# Altium integrated library Cypress Clocks & Buffers Clock Generation.IntLib: 249 symbols (part 7 of 12)
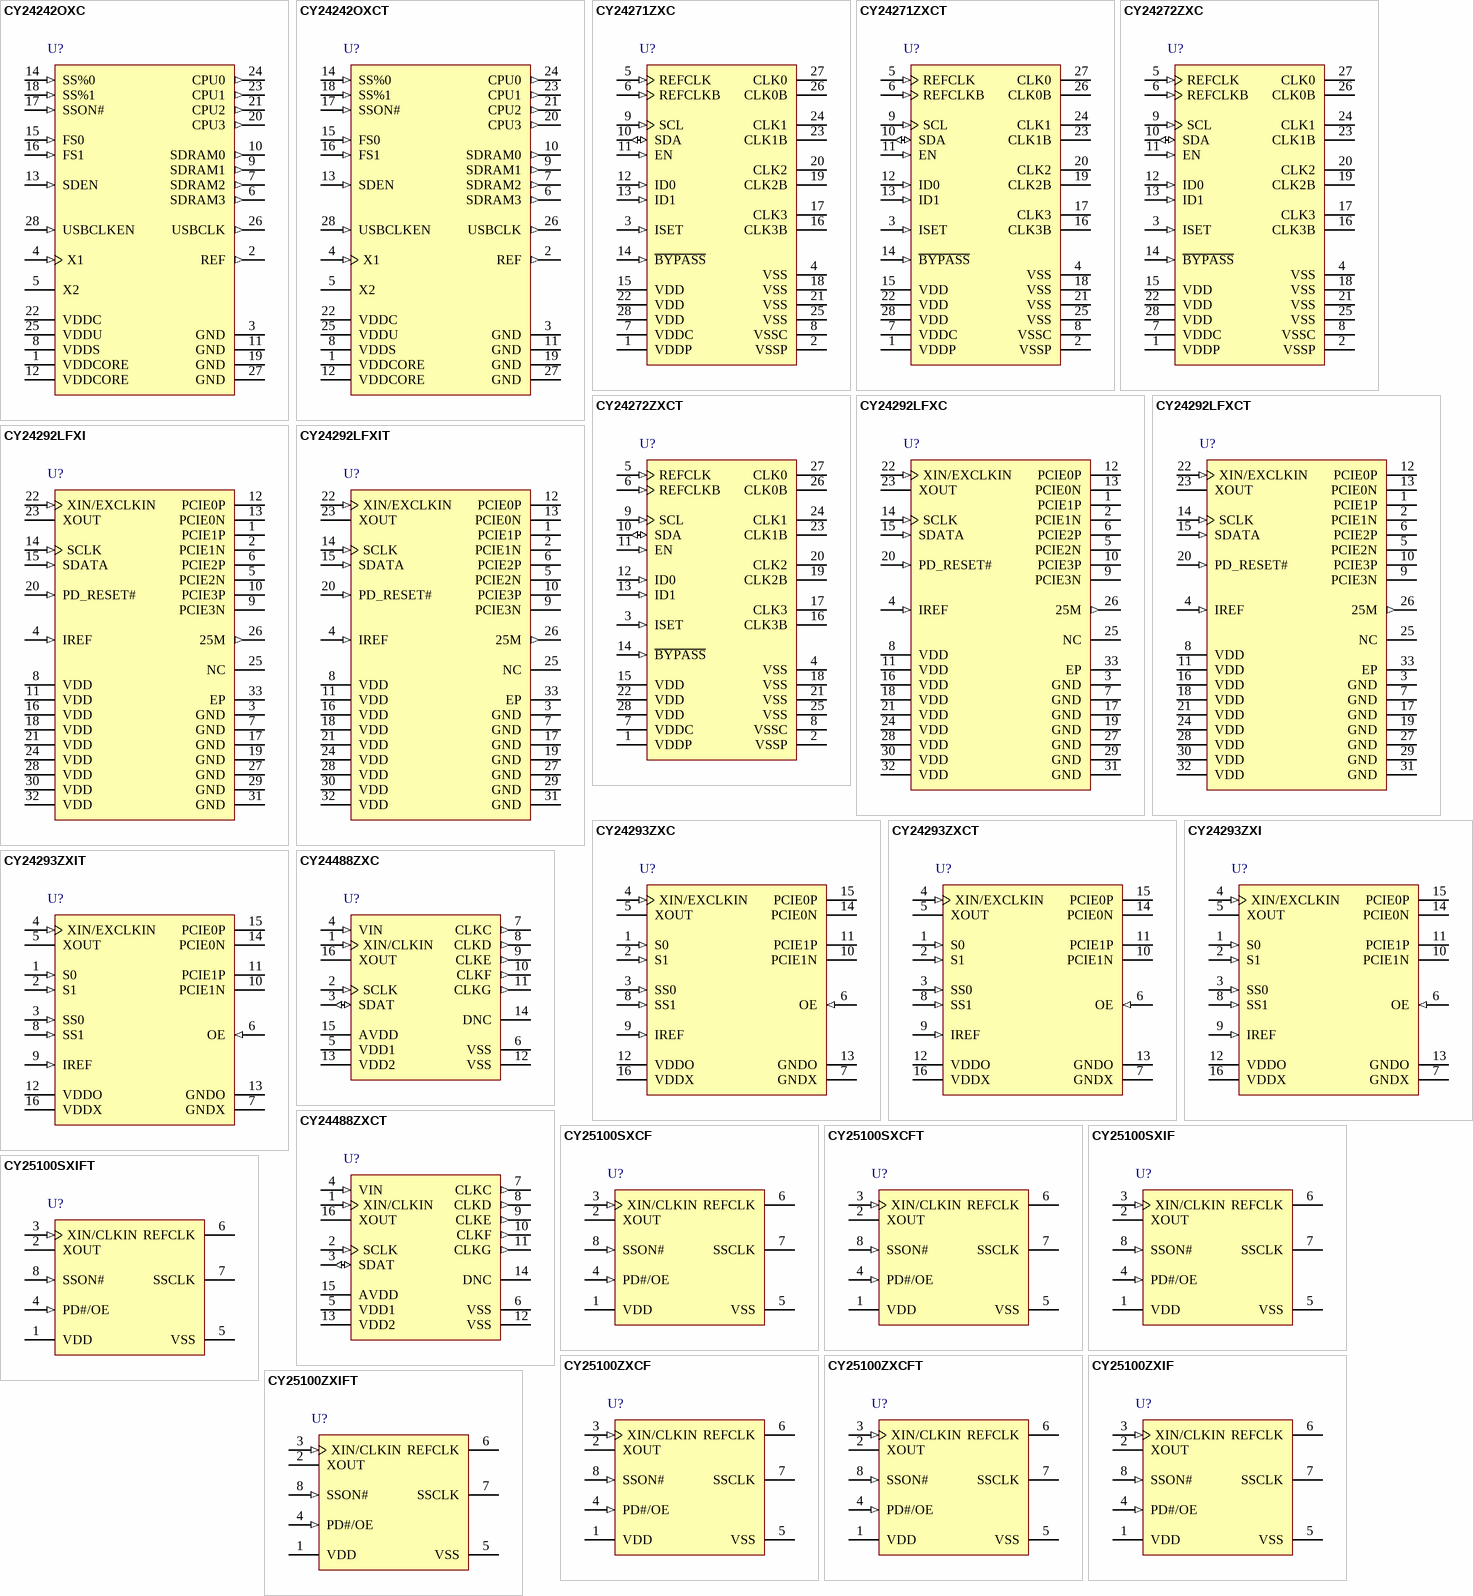
[diagram p14: symbols CY24242OXC to CY25100ZXIFT]

## CY24292LFXIT
designator U?
PCI-Express Clock Generator, 3.3 V, 5 Outputs, 100 MHz Maximum, -40 to 85 degC, 32-Pin QFN (LQX32), Tape and Reel; Manufacturer: Cypress; PartNumber: CY24292LFXIT; Max. Operating Voltage (V): 3.6; Min. Operating Voltage (V): 3; No. of Outputs: 5; Output Frequency Max. (MHz): 100; DatasheetVersion: Rev. *D; PackageVersion: Rev. *E; PackageReference: LQX32; PackageDescription: 32-Pin QFN (5 x 4 x 0.55 mm) LQ32 3.5 x 3.5 E-Pad (Sawn); Supplier 1: Digi-Key; Supplier Part Number 1: CY24292LFXIT-ND; Supplier 2: Mouser; Supplier Part Number 2: 727-CY24292LFXIT; Max. Operating Temp. (degreesC): 85; Min. Operating Temp. (degreesC): -40; Packing: Tape and Reel; RoHS: Pb-Free; Mounting Technology: Surface Mount; Code_JEDEC: MO-248; ComponentLink1Description: Manufacturer URL; ComponentLink1URL: http://www.cypress.com/; ComponentLink2Description: Datasheet; ComponentLink2URL: http://www.cypress.com/?docID=32724; ComponentLink3Description: Package Specification; ComponentLink3URL: http://www.cypress.com/?docID=46968
footprint CYP-LQX32_N (QFN, 32-Leads, Body 5x5mm, Pitch 0.5mm, Thermal Pad 3.5x3.5mm, IPC Medium Density)
footprint CYP-LQX32_L (QFN, 32-Leads, Body 5x5mm, Pitch 0.5mm, Thermal Pad 3.5X3.5mm, IPC High Density)
footprint CYP-LQX32_M (QFN, 32-Leads, Body 5x5mm, Pitch 0.5mm, Thermal Pad 3.5x3.5mm, IPC Low Density)
pins: 1 PCIE1P (hiz) "Differential 100 MHz PCI-Express true clock output. High impedance when disabled.", 2 PCIE1N (hiz) "Differential 100 MHz PCI-Express complementary clock output. High impedance when disabled.", 3 GND (power) "Ground", 4 IREF (in) "Current set for all differential clock drivers. Connect 475 ohm resistor to ground.", 5 PCIE2N (hiz) "Differential 100 MHz PCI-Express complementary clock output. High impedance when disabled.", 6 PCIE2P (hiz) "Differential 100 MHz PCI-Express true clock output. High impedance when disabled.", 7 GND (power) "Ground", 8 VDD (power) "3.3 V Power supply", 9 PCIE3N (hiz) "Differential 100 MHz PCI-Express complementary clock output. High impedance when disabled.", 10 PCIE3P (hiz) "Differential 100 MHz PCI-Express true clock output. High impedance when disabled.", 11 VDD (power) "3.3 V Power supply", 12 PCIE0P (hiz) "Differential 100 MHz PCI-Express true clock output. High impedance when disabled.", 13 PCIE0N (hiz) "Differential 100 MHz PCI-Express complementary clock output. High impedance when disabled.", 14 SCLK (in) "SMBus clock input", 15 SDATA (in) "SMBus data input", 16 VDD (power) "3.3 V Power supply", 17 GND (power) "Ground", 18 VDD (power) "3.3 V Power supply", 19 GND (power) "Ground", 20 PD_RESET# (in) "Global reset pin. Powers down PLLs, disables outputs and sets the SMBus tables to their default state when pulled low. Has internal weak pull up.", 21 VDD (power) "3.3 V Power supply", 22 XIN/EXCLKIN (in) "Crystal or clock input. Connect to 25 MHz fundamental mode crystal or clock.", 23 XOUT "Crystal output. Connect to 25 MHz fundamental mode crystal. Float for clock input.", 24 VDD (power) "3.3 V Power supply", 25 NC "No connect. Pin has no internal connection.", 26 25M (out) "25 MHz Single-ended LVCMOS output. Pull-down when disabled by PD_RESET#. Driven low when individually disabled (via SMBus byte 0, bit 0).", 27 GND (power) "Ground", 28 VDD (power) "3.3 V Power supply", 29 GND (power) "Ground", 30 VDD (power) "3.3 V Power supply", 31 GND (power) "Ground", 32 VDD (power) "3.3 V Power supply", 33 EP

## CY24293ZXC
designator U?
PCI-Express Clock Generator, 3.3 V, 2 Outputs, 200 MHz Maximum, 0 to 70 degC, 16-Pin TSSOP (ZX16), Tube; Manufacturer: Cypress; PartNumber: CY24293ZXC; Max. Operating Voltage (V): 3.6; Min. Operating Voltage (V): 3; No. of Outputs: 2; Output Frequency Max. (MHz): 200; DatasheetVersion: Rev. *E; PackageVersion: Rev. *D, 09/2011; PackageReference: ZX16; PackageDescription: 16-Pin Thin Shrink Small Outline Package, Body 5 x 4.4 mm, Pitch 0.65 mm; Supplier 1: Digi-Key; Supplier Part Number 1: CY24293ZXC-ND; Supplier 2: Mouser; Supplier Part Number 2: 727-CY24293ZXC; Max. Operating Temp. (degreesC): 70; Min. Operating Temp. (degreesC): 0; Packing: Tube; RoHS: Pb-Free; Mounting Technology: Surface Mount; Code_JEDEC: MO-153; ComponentLink1Description: Manufacturer URL; ComponentLink1URL: http://www.cypress.com/; ComponentLink2Description: Datasheet; ComponentLink2URL: http://www.cypress.com/?docID=32329; ComponentLink3Description: Package Specification; ComponentLink3URL: http://www.cypress.com/?docID=39143
footprint CYP-ZX16_N (SOP, 16-Leads, Body 5.1x4.5mm, Pitch 0.65mm, IPC Medium Density)
footprint CYP-ZX16_L (SOP, 16-Leads, Body 5.1x4.5mm, Pitch 0.65mm, IPC High Density)
footprint CYP-ZX16_M (SOP, 16-Leads, Body 5.1x4.5mm, Pitch 0.65mm, IPC Low Density)
pins: 1 S0 (in) "Frequency select pin. Has internal weak pull-up. Refer to Table 1.", 2 S1 (in) "Frequency select pin. Has internal weak pull-up. Refer to Table 1.", 3 SS0 (in) "Spread spectrum select pin 0. Has internal weak pull-up. Refer to Table 2.", 4 XIN/EXCLKIN (in) "Crystal or clock input. 25 MHz fundamental mode crystal or clock input.", 5 XOUT "Crystal output. 25 MHz fundamental mode crystal input. Float for clock input.", 6 OE (in) "High true output enable pin. When set low, PCI-E outputs are tri-stated. Has internal weak pull-up.", 7 GNDX (power) "Ground", 8 SS1 (in) "Spread spectrum select pin 1. has internal weak pull-up. Refer to Table 2.", 9 IREF (in) "Current set for all differential clock drivers. Connect 475 Omh resistor to ground.", 10 PCIE1N (hiz) "Differential PCI-Express complementary clock output. Tristated when disabled", 11 PCIE1P (hiz) "Differential PCI-Express true clock output. Tristated when disabled.", 12 VDDO (power) "3.3 V Power supply for output driver and analog circuits.", 13 GNDO (power) "Ground", 14 PCIE0N (hiz) "Differential PCI-Express complementary clock output. Tristated when disabled.", 15 PCIE0P (hiz) "Differential PCI-Express true clock output. Tristated when disabled.", 16 VDDX (power) "3.3 V Power supply for oscillator and digital circuits."

## CY24293ZXCT
designator U?
PCI-Express Clock Generator, 3.3 V, 2 Outputs, 200 MHz Maximum, 0 to 70 degC, 16-Pin TSSOP (ZX16), Tape and Reel; Manufacturer: Cypress; PartNumber: CY24293ZXCT; Max. Operating Voltage (V): 3.6; Min. Operating Voltage (V): 3; No. of Outputs: 2; Output Frequency Max. (MHz): 200; DatasheetVersion: Rev. *E; PackageVersion: Rev. *D, 09/2011; PackageReference: ZX16; PackageDescription: 16-Pin Thin Shrink Small Outline Package, Body 5 x 4.4 mm, Pitch 0.65 mm; Supplier 1: Digi-Key; Supplier Part Number 1: CY24293ZXCT-ND; Supplier 2: Mouser; Supplier Part Number 2: 727-CY24293ZXCT; Max. Operating Temp. (degreesC): 70; Min. Operating Temp. (degreesC): 0; Packing: Tape and Reel; RoHS: Pb-Free; Mounting Technology: Surface Mount; Code_JEDEC: MO-153; ComponentLink1Description: Manufacturer URL; ComponentLink1URL: http://www.cypress.com/; ComponentLink2Description: Datasheet; ComponentLink2URL: http://www.cypress.com/?docID=32329; ComponentLink3Description: Package Specification; ComponentLink3URL: http://www.cypress.com/?docID=39143
footprint CYP-ZX16_N (SOP, 16-Leads, Body 5.1x4.5mm, Pitch 0.65mm, IPC Medium Density)
footprint CYP-ZX16_L (SOP, 16-Leads, Body 5.1x4.5mm, Pitch 0.65mm, IPC High Density)
footprint CYP-ZX16_M (SOP, 16-Leads, Body 5.1x4.5mm, Pitch 0.65mm, IPC Low Density)
pins: 1 S0 (in) "Frequency select pin. Has internal weak pull-up. Refer to Table 1.", 2 S1 (in) "Frequency select pin. Has internal weak pull-up. Refer to Table 1.", 3 SS0 (in) "Spread spectrum select pin 0. Has internal weak pull-up. Refer to Table 2.", 4 XIN/EXCLKIN (in) "Crystal or clock input. 25 MHz fundamental mode crystal or clock input.", 5 XOUT "Crystal output. 25 MHz fundamental mode crystal input. Float for clock input.", 6 OE (in) "High true output enable pin. When set low, PCI-E outputs are tri-stated. Has internal weak pull-up.", 7 GNDX (power) "Ground", 8 SS1 (in) "Spread spectrum select pin 1. has internal weak pull-up. Refer to Table 2.", 9 IREF (in) "Current set for all differential clock drivers. Connect 475 Omh resistor to ground.", 10 PCIE1N (hiz) "Differential PCI-Express complementary clock output. Tristated when disabled", 11 PCIE1P (hiz) "Differential PCI-Express true clock output. Tristated when disabled.", 12 VDDO (power) "3.3 V Power supply for output driver and analog circuits.", 13 GNDO (power) "Ground", 14 PCIE0N (hiz) "Differential PCI-Express complementary clock output. Tristated when disabled.", 15 PCIE0P (hiz) "Differential PCI-Express true clock output. Tristated when disabled.", 16 VDDX (power) "3.3 V Power supply for oscillator and digital circuits."

## CY24293ZXI
designator U?
PCI-Express Clock Generator, 3.3 V, 2 Outputs, 200 MHz Maximum, -40 to 85 degC, 16-Pin TSSOP (ZX16), Tube; Manufacturer: Cypress; PartNumber: CY24293ZXI; Max. Operating Voltage (V): 3.6; Min. Operating Voltage (V): 3; No. of Outputs: 2; Output Frequency Max. (MHz): 200; DatasheetVersion: Rev. *E; PackageVersion: Rev. *D, 09/2011; PackageReference: ZX16; PackageDescription: 16-Pin Thin Shrink Small Outline Package, Body 5 x 4.4 mm, Pitch 0.65 mm; Supplier 1: Digi-Key; Supplier Part Number 1: CY24293ZXI-ND; Supplier 2: Mouser; Supplier Part Number 2: 727-CY24293ZXI; Max. Operating Temp. (degreesC): 85; Min. Operating Temp. (degreesC): -40; Packing: Tube; RoHS: Pb-Free; Mounting Technology: Surface Mount; Code_JEDEC: MO-153; ComponentLink1Description: Manufacturer URL; ComponentLink1URL: http://www.cypress.com/; ComponentLink2Description: Datasheet; ComponentLink2URL: http://www.cypress.com/?docID=32329; ComponentLink3Description: Package Specification; ComponentLink3URL: http://www.cypress.com/?docID=39143
footprint CYP-ZX16_N (SOP, 16-Leads, Body 5.1x4.5mm, Pitch 0.65mm, IPC Medium Density)
footprint CYP-ZX16_L (SOP, 16-Leads, Body 5.1x4.5mm, Pitch 0.65mm, IPC High Density)
footprint CYP-ZX16_M (SOP, 16-Leads, Body 5.1x4.5mm, Pitch 0.65mm, IPC Low Density)
pins: 1 S0 (in) "Frequency select pin. Has internal weak pull-up. Refer to Table 1.", 2 S1 (in) "Frequency select pin. Has internal weak pull-up. Refer to Table 1.", 3 SS0 (in) "Spread spectrum select pin 0. Has internal weak pull-up. Refer to Table 2.", 4 XIN/EXCLKIN (in) "Crystal or clock input. 25 MHz fundamental mode crystal or clock input.", 5 XOUT "Crystal output. 25 MHz fundamental mode crystal input. Float for clock input.", 6 OE (in) "High true output enable pin. When set low, PCI-E outputs are tri-stated. Has internal weak pull-up.", 7 GNDX (power) "Ground", 8 SS1 (in) "Spread spectrum select pin 1. has internal weak pull-up. Refer to Table 2.", 9 IREF (in) "Current set for all differential clock drivers. Connect 475 Omh resistor to ground.", 10 PCIE1N (hiz) "Differential PCI-Express complementary clock output. Tristated when disabled", 11 PCIE1P (hiz) "Differential PCI-Express true clock output. Tristated when disabled.", 12 VDDO (power) "3.3 V Power supply for output driver and analog circuits.", 13 GNDO (power) "Ground", 14 PCIE0N (hiz) "Differential PCI-Express complementary clock output. Tristated when disabled.", 15 PCIE0P (hiz) "Differential PCI-Express true clock output. Tristated when disabled.", 16 VDDX (power) "3.3 V Power supply for oscillator and digital circuits."

## CY24293ZXIT
designator U?
PCI-Express Clock Generator, 3.3 V, 2 Outputs, 200 MHz Maximum, -40 to 85 degC, 16-Pin TSSOP (ZX16), Tape and Reel; Manufacturer: Cypress; PartNumber: CY24293ZXIT; Max. Operating Voltage (V): 3.6; Min. Operating Voltage (V): 3; No. of Outputs: 2; Output Frequency Max. (MHz): 200; DatasheetVersion: Rev. *E; PackageVersion: Rev. *D, 09/2011; PackageReference: ZX16; PackageDescription: 16-Pin Thin Shrink Small Outline Package, Body 5 x 4.4 mm, Pitch 0.65 mm; Supplier 1: Digi-Key; Supplier Part Number 1: CY24293ZXIT-ND; Supplier 2: Mouser; Supplier Part Number 2: 727-CY24293ZXIT; Max. Operating Temp. (degreesC): 85; Min. Operating Temp. (degreesC): -40; Packing: Tape and Reel; RoHS: Pb-Free; Mounting Technology: Surface Mount; Code_JEDEC: MO-153; ComponentLink1Description: Manufacturer URL; ComponentLink1URL: http://www.cypress.com/; ComponentLink2Description: Datasheet; ComponentLink2URL: http://www.cypress.com/?docID=32329; ComponentLink3Description: Package Specification; ComponentLink3URL: http://www.cypress.com/?docID=39143
footprint CYP-ZX16_N (SOP, 16-Leads, Body 5.1x4.5mm, Pitch 0.65mm, IPC Medium Density)
footprint CYP-ZX16_L (SOP, 16-Leads, Body 5.1x4.5mm, Pitch 0.65mm, IPC High Density)
footprint CYP-ZX16_M (SOP, 16-Leads, Body 5.1x4.5mm, Pitch 0.65mm, IPC Low Density)
pins: 1 S0 (in) "Frequency select pin. Has internal weak pull-up. Refer to Table 1.", 2 S1 (in) "Frequency select pin. Has internal weak pull-up. Refer to Table 1.", 3 SS0 (in) "Spread spectrum select pin 0. Has internal weak pull-up. Refer to Table 2.", 4 XIN/EXCLKIN (in) "Crystal or clock input. 25 MHz fundamental mode crystal or clock input.", 5 XOUT "Crystal output. 25 MHz fundamental mode crystal input. Float for clock input.", 6 OE (in) "High true output enable pin. When set low, PCI-E outputs are tri-stated. Has internal weak pull-up.", 7 GNDX (power) "Ground", 8 SS1 (in) "Spread spectrum select pin 1. has internal weak pull-up. Refer to Table 2.", 9 IREF (in) "Current set for all differential clock drivers. Connect 475 Omh resistor to ground.", 10 PCIE1N (hiz) "Differential PCI-Express complementary clock output. Tristated when disabled", 11 PCIE1P (hiz) "Differential PCI-Express true clock output. Tristated when disabled.", 12 VDDO (power) "3.3 V Power supply for output driver and analog circuits.", 13 GNDO (power) "Ground", 14 PCIE0N (hiz) "Differential PCI-Express complementary clock output. Tristated when disabled.", 15 PCIE0P (hiz) "Differential PCI-Express true clock output. Tristated when disabled.", 16 VDDX (power) "3.3 V Power supply for oscillator and digital circuits."

## CY24488ZXC
designator U?
Quad PLL Clock Generator with Two-Wire Serial Interface, 2.5 / 3.3 V, 5 Outputs, 4.9152 to 148.5 MHz, 0 to 70 degC, 16-Pin TSSOP (ZX16), Tube; Manufacturer: Cypress; PartNumber: CY24488ZXC; Max. Operating Voltage (V): 3.6; Min. Operating Voltage (V): 3; No. of Outputs: 5; Output Frequency Max. (MHz): 148.5; Output Frequency Min. (MHz): 4.9152; DatasheetVersion: Rev. *E; PackageVersion: Rev. *D, 09/2011; PackageReference: ZX16; PackageDescription: 16-Pin Thin Shrink Small Outline Package, Body 5 x 4.4 mm, Pitch 0.65 mm; Supplier 1: Digi-Key; Supplier Part Number 1: 428-3255-5-ND; Supplier 2: Mouser; Supplier Part Number 2: 727-CY24488ZXC; Max. Operating Temp. (degreesC): 70; Min. Operating Temp. (degreesC): 0; Packing: Tube; RoHS: Pb-Free; Mounting Technology: Surface Mount; Code_JEDEC: MO-153; ComponentLink1Description: Manufacturer URL; ComponentLink1URL: http://www.cypress.com/; ComponentLink2Description: Datasheet; ComponentLink2URL: http://www.cypress.com/?docID=46959; ComponentLink3Description: Package Specification; ComponentLink3URL: http://www.cypress.com/?docID=39143
footprint CYP-ZX16_N (SOP, 16-Leads, Body 5.1x4.5mm, Pitch 0.65mm, IPC Medium Density)
footprint CYP-ZX16_L (SOP, 16-Leads, Body 5.1x4.5mm, Pitch 0.65mm, IPC High Density)
footprint CYP-ZX16_M (SOP, 16-Leads, Body 5.1x4.5mm, Pitch 0.65mm, IPC Low Density)
pins: 1 XIN/CLKIN (in) "Crystal Input (27 MHz) or External Input Clock (27 MHz)", 2 SCLK (in) "Serial Interface Clock Input", 3 SDAT (io) "Serial Interface Data", 4 VIN (in) "Analog Control Input for VCXO", 5 VDD1 (power) "Voltage Supply for Outputs CLKC", 6 VSS (power) "Ground", 7 CLKC (out) "Clock Output", 8 CLKD (out) "Clock Output", 9 CLKE (out) "Clock Output", 10 CLKF (out) "Clock Output", 11 CLKG (out) "Clock Output", 12 VSS (power) "Ground", 13 VDD2 (power) "Voltage Supply for Outputs CLKD, CLKE, CLKF, CLKG", 14 DNC "Do Not Connect. This pin must be left floating.", 15 AVDD (power) "Core and input Voltage Supply", 16 XOUT "Crystal Output"

## CY24488ZXCT
designator U?
Quad PLL Clock Generator with Two-Wire Serial Interface, 2.5 / 3.3 V, 5 Outputs, 4.9152 to 148.5 MHz, 0 to 70 degC, 16-Pin TSSOP (ZX16), Tape and Reel; Manufacturer: Cypress; PartNumber: CY24488ZXCT; Max. Operating Voltage (V): 3.6; Min. Operating Voltage (V): 3; No. of Outputs: 5; Output Frequency Max. (MHz): 148.5; Output Frequency Min. (MHz): 4.9152; DatasheetVersion: Rev. *D; PackageVersion: Rev. *D, 09/2011; PackageReference: ZX16; PackageDescription: 16-Pin Thin Shrink Small Outline Package, Body 5 x 4.4 mm, Pitch 0.65 mm; Supplier 1: Digi-Key; Supplier Part Number 1: CY24488ZXCT-ND; Supplier 2: Mouser; Supplier Part Number 2: 727-CY24488ZXCT; Max. Operating Temp. (degreesC): 70; Min. Operating Temp. (degreesC): 0; Packing: Tape and Reel; RoHS: Pb-Free; Mounting Technology: Surface Mount; Code_JEDEC: MO-153; ComponentLink1Description: Manufacturer URL; ComponentLink1URL: http://www.cypress.com/; ComponentLink2Description: Datasheet; ComponentLink2URL: http://www.cypress.com/?docID=46959; ComponentLink3Description: Package Specification; ComponentLink3URL: http://www.cypress.com/?docID=39143
footprint CYP-ZX16_N (SOP, 16-Leads, Body 5.1x4.5mm, Pitch 0.65mm, IPC Medium Density)
footprint CYP-ZX16_L (SOP, 16-Leads, Body 5.1x4.5mm, Pitch 0.65mm, IPC High Density)
footprint CYP-ZX16_M (SOP, 16-Leads, Body 5.1x4.5mm, Pitch 0.65mm, IPC Low Density)
pins: 1 XIN/CLKIN (in) "Crystal Input (27 MHz) or External Input Clock (27 MHz)", 2 SCLK (in) "Serial Interface Clock Input", 3 SDAT (io) "Serial Interface Data", 4 VIN (in) "Analog Control Input for VCXO", 5 VDD1 (power) "Voltage Supply for Outputs CLKC", 6 VSS (power) "Ground", 7 CLKC (out) "Clock Output", 8 CLKD (out) "Clock Output", 9 CLKE (out) "Clock Output", 10 CLKF (out) "Clock Output", 11 CLKG (out) "Clock Output", 12 VSS (power) "Ground", 13 VDD2 (power) "Voltage Supply for Outputs CLKD, CLKE, CLKF, CLKG", 14 DNC "Do Not Connect. This pin must be left floating.", 15 AVDD (power) "Core and input Voltage Supply", 16 XOUT "Crystal Output"

## CY25100SXCF
designator U?
Field and Factory Programmable Spread Spectrum Clock Generator for EMI Reduction, 3.3 V, 2 Outputs, 3 to 200 MHz, 0 to 70 degC, 8-Pin SOIC (SX8), Tube; Manufacturer: Cypress; PartNumber: CY25100SXCF; Input Frequency Max. (MHz): 166; Input Frequency Min. (MHz): 8; Max. Operating Voltage (V): 3.45; Min. Operating Voltage (V): 3.13; No. of Outputs: 2; Output Frequency Max. (MHz): 200; Output Frequency Min. (MHz): 3; DatasheetVersion: Rev. *J; PackageVersion: Rev. *E, 06/2011; PackageReference: SX8; PackageDescription: 8-pin Lead SOIC-S08, Body 4.89 x 3.90 mm,Pitch 1.27 mm; Supplier 1: Digi-Key; Supplier Part Number 1: 428-2219-5-ND; Supplier 2: Mouser; Supplier Part Number 2: 727-CY25100SXCF; Max. Operating Temp. (degreesC): 70; Min. Operating Temp. (degreesC): 0; Packing: Tube; RoHS: Pb-Free; Mounting Technology: Surface Mount; Code_JEDEC: MS-012; ComponentLink1Description: Manufacturer URL; ComponentLink1URL: http://www.cypress.com/; ComponentLink2Description: Datasheet; ComponentLink2URL: http://www.cypress.com/?docID=46096; ComponentLink3Description: Package Specification; ComponentLink3URL: http://www.cypress.com/?docID=39153
footprint CYP-SX8_N (SOIC, 8-Leads, Body 4.89x3.90mm, Pitch 1.27mm, IPC Medium Density)
footprint CYP-SX8_L (SOIC, 8-Leads, Body 4.89x3.90mm, Pitch 1.27mm, IPC High Density)
footprint CYP-SX8_M (SOIC, 8-Leads, Body 4.89x3.90mm, Pitch 1.27mm, IPC Low Density)
pins: 1 VDD (power) "3.3 V power supply.", 2 XOUT "Crystal output. Leave this pin floating if external clock is connected to pin 3.", 3 XIN/CLKIN (in) "Crystal input or reference clock input.", 4 PD#/OE (in) "User has the option of choosing either PD# or OE function. Power Down pin: Active LOW. If PD# = 0, PLL and crystal oscillator circuit are powered down, and outputs are weakly pulled low. Output Enable pin: Active HIGH. If OE (See Datasheet)", 5 VSS (power) "Power supply ground.", 6 REFCLK (hiz) "Buffered reference output.", 7 SSCLK (hiz) "Spread spectrum clock output.", 8 SSON# (in) "Spread spectrum control: Active LOW. 0 = spread on. 1 = spread off."

## CY25100SXCFT
designator U?
Field and Factory Programmable Spread Spectrum Clock Generator for EMI Reduction, 3.3 V, 2 Outputs, 3 to 200 MHz, 0 to 70 degC, 8-Pin SOIC (SX8), Tape and Reel; Manufacturer: Cypress; PartNumber: CY25100SXCFT; Input Frequency Max. (MHz): 166; Input Frequency Min. (MHz): 8; Max. Operating Voltage (V): 3.45; Min. Operating Voltage (V): 3.13; No. of Outputs: 2; Output Frequency Max. (MHz): 200; Output Frequency Min. (MHz): 3; DatasheetVersion: Rev. *D; PackageVersion: Rev. *E, 06/2011; PackageReference: SX8; PackageDescription: 8-pin Lead SOIC-S08, Body 4.89 x 3.90 mm,Pitch 1.27 mm; Supplier 1: Mouser; Supplier Part Number 1: 727-CY25100SXCFT; Max. Operating Temp. (degreesC): 70; Min. Operating Temp. (degreesC): 0; Packing: Tape and Reel; RoHS: Pb-Free; Mounting Technology: Surface Mount; Code_JEDEC: MS-012; ComponentLink1Description: Manufacturer URL; ComponentLink1URL: http://www.cypress.com/; ComponentLink2Description: Datasheet; ComponentLink2URL: http://www.cypress.com/?docID=46096; ComponentLink3Description: Package Specification; ComponentLink3URL: http://www.cypress.com/?docID=39153
footprint CYP-SX8_N (SOIC, 8-Leads, Body 4.89x3.90mm, Pitch 1.27mm, IPC Medium Density)
footprint CYP-SX8_L (SOIC, 8-Leads, Body 4.89x3.90mm, Pitch 1.27mm, IPC High Density)
footprint CYP-SX8_M (SOIC, 8-Leads, Body 4.89x3.90mm, Pitch 1.27mm, IPC Low Density)
pins: 1 VDD (power) "3.3 V power supply.", 2 XOUT "Crystal output. Leave this pin floating if external clock is connected to pin 3.", 3 XIN/CLKIN (in) "Crystal input or reference clock input.", 4 PD#/OE (in) "User has the option of choosing either PD# or OE function. Power Down pin: Active LOW. If PD# = 0, PLL and crystal oscillator circuit are powered down, and outputs are weakly pulled low. Output Enable pin: Active HIGH. If OE (See Datasheet)", 5 VSS (power) "Power supply ground.", 6 REFCLK (hiz) "Buffered reference output.", 7 SSCLK (hiz) "Spread spectrum clock output.", 8 SSON# (in) "Spread spectrum control: Active LOW. 0 = spread on. 1 = spread off."

## CY25100SXIF
designator U?
Field and Factory Programmable Spread Spectrum Clock Generator for EMI Reduction, 3.3 V, 2 Outputs, 3 to 200 MHz, -40 to 85 degC, 8-Pin SOIC (SX8), Tube; Manufacturer: Cypress; PartNumber: CY25100SXIF; Input Frequency Max. (MHz): 166; Input Frequency Min. (MHz): 8; Max. Operating Voltage (V): 3.45; Min. Operating Voltage (V): 3.13; No. of Outputs: 2; Output Frequency Max. (MHz): 200; Output Frequency Min. (MHz): 3; DatasheetVersion: Rev. *D; PackageVersion: Rev. *E, 06/2011; PackageReference: SX8; PackageDescription: 8-pin Lead SOIC-S08, Body 4.89 x 3.90 mm,Pitch 1.27 mm; Supplier 1: Digi-Key; Supplier Part Number 1: 428-2220-5-ND; Supplier 2: Mouser; Supplier Part Number 2: 727-CY25100SXIF; Max. Operating Temp. (degreesC): 85; Min. Operating Temp. (degreesC): -40; Packing: Tube; RoHS: Pb-Free; Mounting Technology: Surface Mount; Code_JEDEC: MS-012; ComponentLink1Description: Manufacturer URL; ComponentLink1URL: http://www.cypress.com/; ComponentLink2Description: Datasheet; ComponentLink2URL: http://www.cypress.com/?docID=46096; ComponentLink3Description: Package Specification; ComponentLink3URL: http://www.cypress.com/?docID=39153
footprint CYP-SX8_N (SOIC, 8-Leads, Body 4.89x3.90mm, Pitch 1.27mm, IPC Medium Density)
footprint CYP-SX8_L (SOIC, 8-Leads, Body 4.89x3.90mm, Pitch 1.27mm, IPC High Density)
footprint CYP-SX8_M (SOIC, 8-Leads, Body 4.89x3.90mm, Pitch 1.27mm, IPC Low Density)
pins: 1 VDD (power) "3.3 V power supply.", 2 XOUT "Crystal output. Leave this pin floating if external clock is connected to pin 3.", 3 XIN/CLKIN (in) "Crystal input or reference clock input.", 4 PD#/OE (in) "User has the option of choosing either PD# or OE function. Power Down pin: Active LOW. If PD# = 0, PLL and crystal oscillator circuit are powered down, and outputs are weakly pulled low. Output Enable pin: Active HIGH. If OE (See Datasheet)", 5 VSS (power) "Power supply ground.", 6 REFCLK (hiz) "Buffered reference output.", 7 SSCLK (hiz) "Spread spectrum clock output.", 8 SSON# (in) "Spread spectrum control: Active LOW. 0 = spread on. 1 = spread off."

## CY25100SXIFT
designator U?
Field and Factory Programmable Spread Spectrum Clock Generator for EMI Reduction, 3.3 V, 2 Outputs, 3 to 200 MHz, -40 to 85 degC, 8-Pin SOIC (SX8), Tape and Reel; Manufacturer: Cypress; PartNumber: CY25100SXIFT; Input Frequency Max. (MHz): 166; Input Frequency Min. (MHz): 8; Max. Operating Voltage (V): 3.45; Min. Operating Voltage (V): 3.13; No. of Outputs: 2; Output Frequency Max. (MHz): 200; Output Frequency Min. (MHz): 3; DatasheetVersion: Rev. *D; PackageVersion: Rev. *E, 06/2011; PackageReference: SX8; PackageDescription: 8-pin Lead SOIC-S08, Body 4.89 x 3.90 mm,Pitch 1.27 mm; Supplier 1: Mouser; Supplier Part Number 1: 727-CY25100SXIFT; Max. Operating Temp. (degreesC): 85; Min. Operating Temp. (degreesC): -40; Packing: Tape and Reel; RoHS: Pb-Free; Mounting Technology: Surface Mount; Code_JEDEC: MS-012; ComponentLink1Description: Manufacturer URL; ComponentLink1URL: http://www.cypress.com/; ComponentLink2Description: Datasheet; ComponentLink2URL: http://www.cypress.com/?docID=46096; ComponentLink3Description: Package Specification; ComponentLink3URL: http://www.cypress.com/?docID=39153
footprint CYP-SX8_N (SOIC, 8-Leads, Body 4.89x3.90mm, Pitch 1.27mm, IPC Medium Density)
footprint CYP-SX8_L (SOIC, 8-Leads, Body 4.89x3.90mm, Pitch 1.27mm, IPC High Density)
footprint CYP-SX8_M (SOIC, 8-Leads, Body 4.89x3.90mm, Pitch 1.27mm, IPC Low Density)
pins: 1 VDD (power) "3.3 V power supply.", 2 XOUT "Crystal output. Leave this pin floating if external clock is connected to pin 3.", 3 XIN/CLKIN (in) "Crystal input or reference clock input.", 4 PD#/OE (in) "User has the option of choosing either PD# or OE function. Power Down pin: Active LOW. If PD# = 0, PLL and crystal oscillator circuit are powered down, and outputs are weakly pulled low. Output Enable pin: Active HIGH. If OE (See Datasheet)", 5 VSS (power) "Power supply ground.", 6 REFCLK (hiz) "Buffered reference output.", 7 SSCLK (hiz) "Spread spectrum clock output.", 8 SSON# (in) "Spread spectrum control: Active LOW. 0 = spread on. 1 = spread off."

## CY25100ZXCF
designator U?
Field and Factory Programmable Spread Spectrum Clock Generator for EMI Reduction, 3.3 V, 2 Outputs, 3 to 200 MHz, 0 to 70 degC, 8-Pin TSSOP (ZX8), Tube; Manufacturer: Cypress; PartNumber: CY25100ZXCF; Input Frequency Max. (MHz): 166; Input Frequency Min. (MHz): 8; Max. Operating Voltage (V): 3.45; Min. Operating Voltage (V): 3.13; No. of Outputs: 2; Output Frequency Max. (MHz): 200; Output Frequency Min. (MHz): 3; DatasheetVersion: Rev. *D; PackageVersion: Rev. *D, 09/2011; PackageReference: ZX8; PackageDescription: 8-Pin Thin Shrink Small Outline Package, Body 3 x 4.4 mm, Pitch 0.65 mm; Supplier 1: Digi-Key; Supplier Part Number 1: CY25100ZXCF-ND; Supplier 2: Mouser; Supplier Part Number 2: 727-CY25100ZXCF; Max. Operating Temp. (degreesC): 70; Min. Operating Temp. (degreesC): 0; Packing: Tube; RoHS: Pb-Free; Mounting Technology: Surface Mount; Code_JEDEC: MO-153; ComponentLink1Description: Manufacturer URL; ComponentLink1URL: http://www.cypress.com/; ComponentLink2Description: Datasheet; ComponentLink2URL: http://www.cypress.com/?docID=46096; ComponentLink3Description: Package Specification; ComponentLink3URL: http://www.cypress.com/?docID=39142
footprint CYP-ZX8_N (SOP, 8-Leads, Body 4.5x3.1mm, Pitch 0.65mm, IPC Medium Density)
footprint CYP-ZX8_L (SOP, 8-Leads, Body 4.5x3.1mm, Pitch 0.65mm, IPC High Density)
footprint CYP-ZX8_M (SOP, 8-Leads, Body 4.5x3.1mm, Pitch 0.65mm, IPC Low Density)
pins: 1 VDD (power) "3.3 V power supply.", 2 XOUT "Crystal output. Leave this pin floating if external clock is connected to pin 3.", 3 XIN/CLKIN (in) "Crystal input or reference clock input.", 4 PD#/OE (in) "User has the option of choosing either PD# or OE function. Power Down pin: Active LOW. If PD# = 0, PLL and crystal oscillator circuit are powered down, and outputs are weakly pulled low. Output Enable pin: Active HIGH. If OE (See Datasheet)", 5 VSS (power) "Power supply ground.", 6 REFCLK (hiz) "Buffered reference output.", 7 SSCLK (hiz) "Spread spectrum clock output.", 8 SSON# (in) "Spread spectrum control: Active LOW. 0 = spread on. 1 = spread off."

## CY25100ZXCFT
designator U?
Field and Factory Programmable Spread Spectrum Clock Generator for EMI Reduction, 3.3 V, 2 Outputs, 3 to 200 MHz, 0 to 70 degC, 8-Pin TSSOP (ZX8), Tape and Reel; Manufacturer: Cypress; PartNumber: CY25100ZXCFT; Input Frequency Max. (MHz): 166; Input Frequency Min. (MHz): 8; Max. Operating Voltage (V): 3.45; Min. Operating Voltage (V): 3.13; No. of Outputs: 2; Output Frequency Max. (MHz): 200; Output Frequency Min. (MHz): 3; DatasheetVersion: Rev. *D; PackageVersion: Rev. *D, 09/2011; PackageReference: ZX8; PackageDescription: 8-Pin Thin Shrink Small Outline Package, Body 3 x 4.4 mm, Pitch 0.65 mm; Supplier 1: Mouser; Supplier Part Number 1: 727-CY25100ZXCFT; Max. Operating Temp. (degreesC): 70; Min. Operating Temp. (degreesC): 0; Packing: Tape and Reel; RoHS: Pb-Free; Mounting Technology: Surface Mount; Code_JEDEC: MO-153; ComponentLink1Description: Manufacturer URL; ComponentLink1URL: http://www.cypress.com/; ComponentLink2Description: Datasheet; ComponentLink2URL: http://www.cypress.com/?docID=46096; ComponentLink3Description: Package Specification; ComponentLink3URL: http://www.cypress.com/?docID=39142
footprint CYP-ZX8_N (SOP, 8-Leads, Body 4.5x3.1mm, Pitch 0.65mm, IPC Medium Density)
footprint CYP-ZX8_L (SOP, 8-Leads, Body 4.5x3.1mm, Pitch 0.65mm, IPC High Density)
footprint CYP-ZX8_M (SOP, 8-Leads, Body 4.5x3.1mm, Pitch 0.65mm, IPC Low Density)
pins: 1 VDD (power) "3.3 V power supply.", 2 XOUT "Crystal output. Leave this pin floating if external clock is connected to pin 3.", 3 XIN/CLKIN (in) "Crystal input or reference clock input.", 4 PD#/OE (in) "User has the option of choosing either PD# or OE function. Power Down pin: Active LOW. If PD# = 0, PLL and crystal oscillator circuit are powered down, and outputs are weakly pulled low. Output Enable pin: Active HIGH. If OE (See Datasheet)", 5 VSS (power) "Power supply ground.", 6 REFCLK (hiz) "Buffered reference output.", 7 SSCLK (hiz) "Spread spectrum clock output.", 8 SSON# (in) "Spread spectrum control: Active LOW. 0 = spread on. 1 = spread off."

## CY25100ZXIF
designator U?
Field and Factory Programmable Spread Spectrum Clock Generator for EMI Reduction, 3.3 V, 2 Outputs, 3 to 200 MHz, -40 to 85 degC, 8-Pin TSSOP (ZX8), Tube; Manufacturer: Cypress; PartNumber: CY25100ZXIF; Input Frequency Max. (MHz): 166; Input Frequency Min. (MHz): 8; Max. Operating Voltage (V): 3.45; Min. Operating Voltage (V): 3.13; No. of Outputs: 2; Output Frequency Max. (MHz): 200; Output Frequency Min. (MHz): 3; DatasheetVersion: Rev. *D; PackageVersion: Rev. *D, 09/2011; PackageReference: ZX8; PackageDescription: 8-Pin Thin Shrink Small Outline Package, Body 3 x 4.4 mm, Pitch 0.65 mm; Supplier 1: Digi-Key; Supplier Part Number 1: 428-2221-ND; Supplier 2: Mouser; Supplier Part Number 2: 727-CY25100ZXIF; Max. Operating Temp. (degreesC): 85; Min. Operating Temp. (degreesC): -40; Packing: Tube; RoHS: Pb-Free; Mounting Technology: Surface Mount; Code_JEDEC: MO-153; ComponentLink1Description: Manufacturer URL; ComponentLink1URL: http://www.cypress.com/; ComponentLink2Description: Datasheet; ComponentLink2URL: http://www.cypress.com/?docID=46096; ComponentLink3Description: Package Specification; ComponentLink3URL: http://www.cypress.com/?docID=39142
footprint CYP-ZX8_N (SOP, 8-Leads, Body 4.5x3.1mm, Pitch 0.65mm, IPC Medium Density)
footprint CYP-ZX8_L (SOP, 8-Leads, Body 4.5x3.1mm, Pitch 0.65mm, IPC High Density)
footprint CYP-ZX8_M (SOP, 8-Leads, Body 4.5x3.1mm, Pitch 0.65mm, IPC Low Density)
pins: 1 VDD (power) "3.3 V power supply.", 2 XOUT "Crystal output. Leave this pin floating if external clock is connected to pin 3.", 3 XIN/CLKIN (in) "Crystal input or reference clock input.", 4 PD#/OE (in) "User has the option of choosing either PD# or OE function. Power Down pin: Active LOW. If PD# = 0, PLL and crystal oscillator circuit are powered down, and outputs are weakly pulled low. Output Enable pin: Active HIGH. If OE (See Datasheet)", 5 VSS (power) "Power supply ground.", 6 REFCLK (hiz) "Buffered reference output.", 7 SSCLK (hiz) "Spread spectrum clock output.", 8 SSON# (in) "Spread spectrum control: Active LOW. 0 = spread on. 1 = spread off."

## CY25100ZXIFT
designator U?
Field and Factory Programmable Spread Spectrum Clock Generator for EMI Reduction, 3.3 V, 2 Outputs, 3 to 200 MHz, -40 to 85 degC, 8-Pin TSSOP (ZX8), Tape and Reel; Manufacturer: Cypress; PartNumber: CY25100ZXIFT; Input Frequency Max. (MHz): 166; Input Frequency Min. (MHz): 8; Max. Operating Voltage (V): 3.45; Min. Operating Voltage (V): 3.13; No. of Outputs: 2; Output Frequency Max. (MHz): 200; Output Frequency Min. (MHz): 3; DatasheetVersion: Rev. *D; PackageVersion: Rev. *D, 09/2011; PackageReference: ZX8; PackageDescription: 8-Pin Thin Shrink Small Outline Package, Body 3 x 4.4 mm, Pitch 0.65 mm; Supplier 1: Mouser; Supplier Part Number 1: 727-CY25100ZXIFT; Max. Operating Temp. (degreesC): 85; Min. Operating Temp. (degreesC): -40; Packing: Tape and Reel; RoHS: Pb-Free; Mounting Technology: Surface Mount; Code_JEDEC: MO-153; ComponentLink1Description: Manufacturer URL; ComponentLink1URL: http://www.cypress.com/; ComponentLink2Description: Datasheet; ComponentLink2URL: http://www.cypress.com/?docID=46096; ComponentLink3Description: Package Specification; ComponentLink3URL: http://www.cypress.com/?docID=39142
footprint CYP-ZX8_N (SOP, 8-Leads, Body 4.5x3.1mm, Pitch 0.65mm, IPC Medium Density)
footprint CYP-ZX8_L (SOP, 8-Leads, Body 4.5x3.1mm, Pitch 0.65mm, IPC High Density)
footprint CYP-ZX8_M (SOP, 8-Leads, Body 4.5x3.1mm, Pitch 0.65mm, IPC Low Density)
pins: 1 VDD (power) "3.3 V power supply.", 2 XOUT "Crystal output. Leave this pin floating if external clock is connected to pin 3.", 3 XIN/CLKIN (in) "Crystal input or reference clock input.", 4 PD#/OE (in) "User has the option of choosing either PD# or OE function. Power Down pin: Active LOW. If PD# = 0, PLL and crystal oscillator circuit are powered down, and outputs are weakly pulled low. Output Enable pin: Active HIGH. If OE (See Datasheet)", 5 VSS (power) "Power supply ground.", 6 REFCLK (hiz) "Buffered reference output.", 7 SSCLK (hiz) "Spread spectrum clock output.", 8 SSON# (in) "Spread spectrum control: Active LOW. 0 = spread on. 1 = spread off."

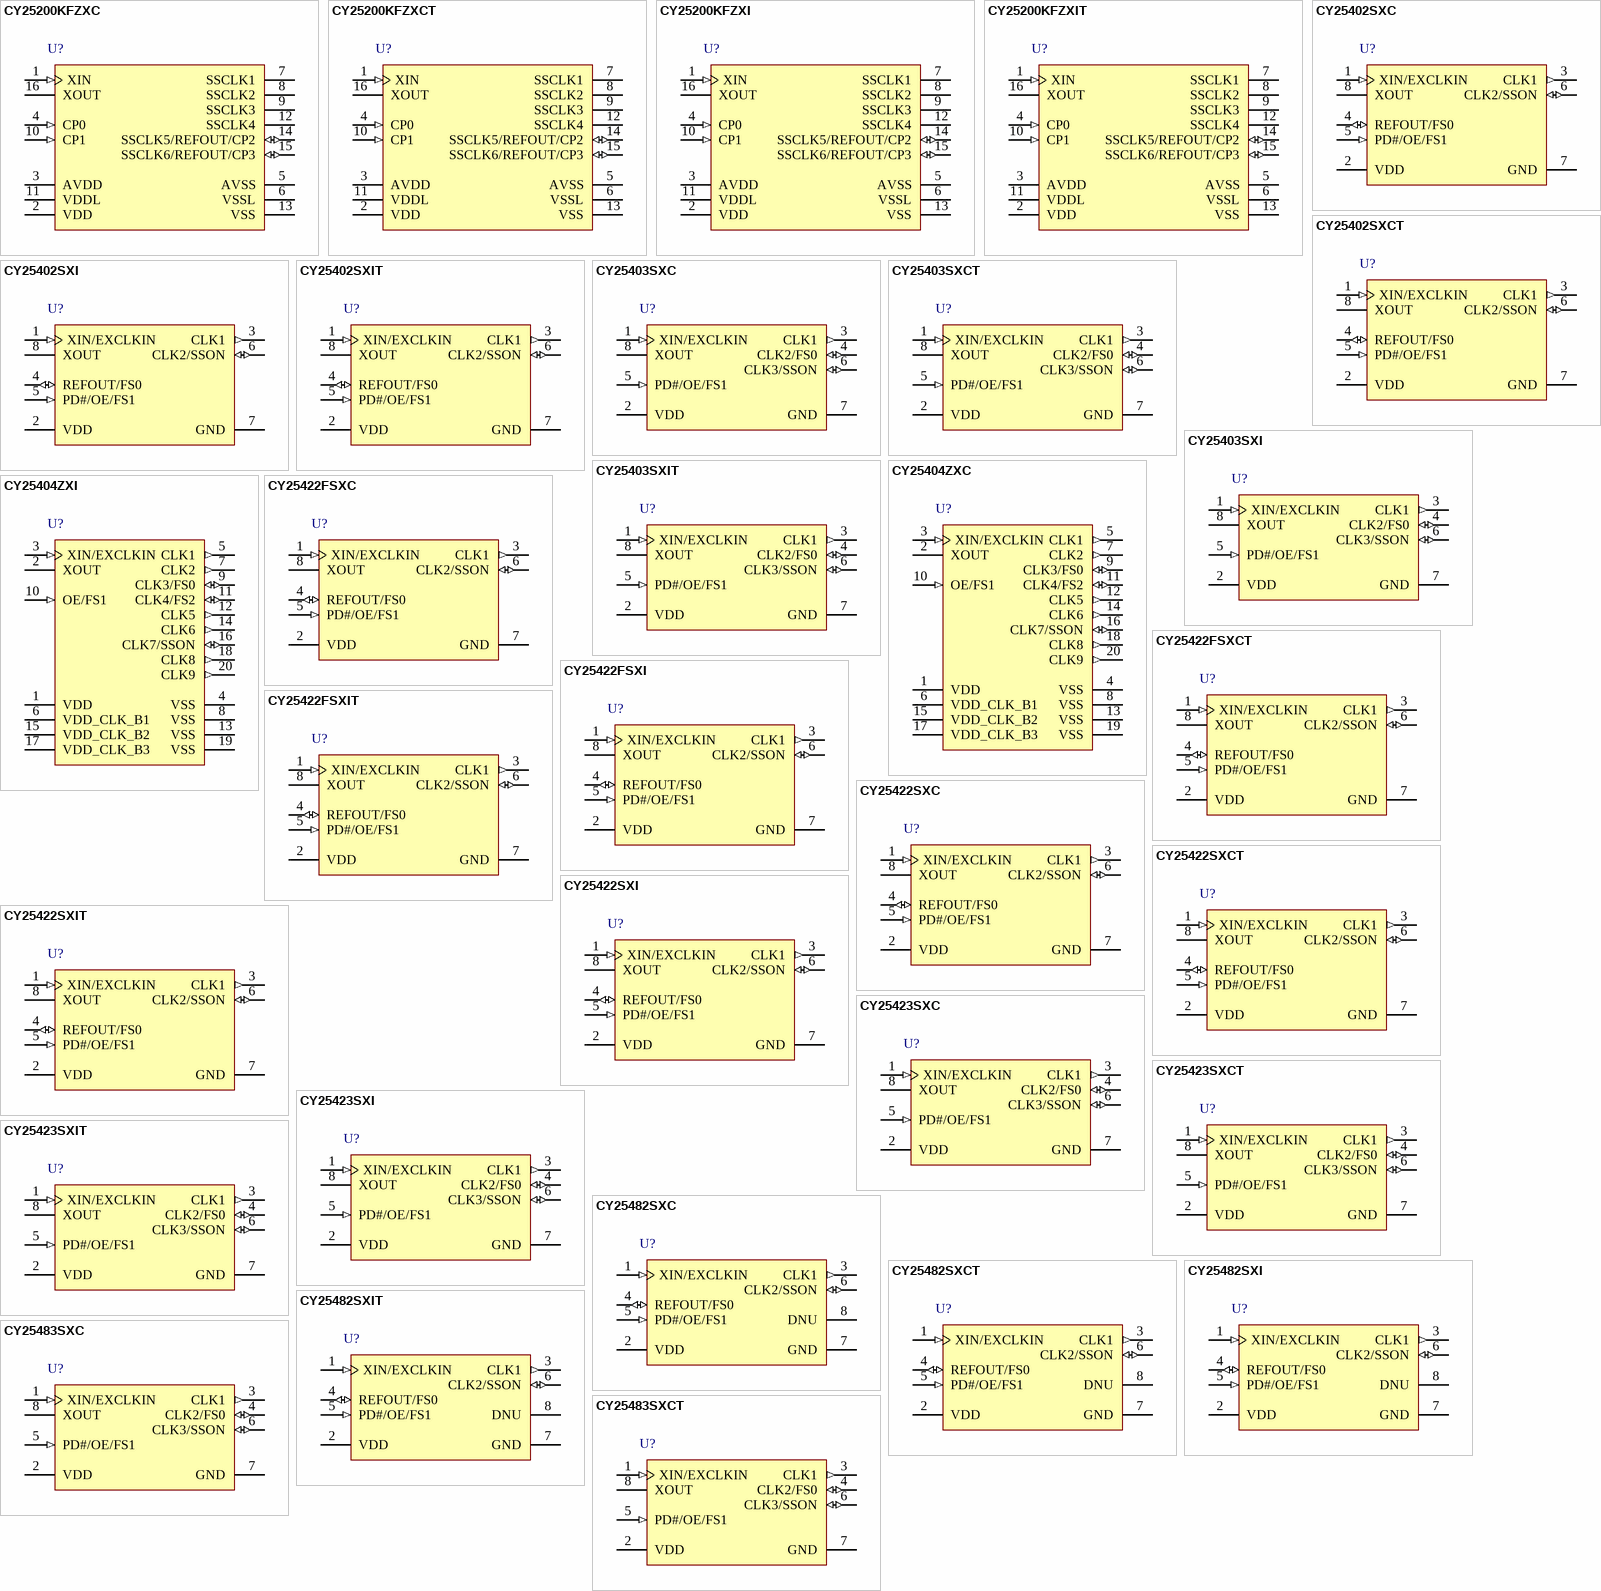
[diagram p5: symbols CY25200KFZXC to CY25483SXCT]

## CY25200KFZXC
designator U?
Programmable Spread Spectrum Clock Generator for EMI Reduction, 2.5 / 3.3 V, 6 Outputs, 3 to 200 MHz, 0 to 70 degC, 16-Pin TSSOP (ZX16), Tube; Manufacturer: Cypress; PartNumber: CY25200KFZXC; Input Frequency Max. (MHz): 166; Input Frequency Min. (MHz): 8; Max. Operating Voltage (V): 3.465; Min. Operating Voltage (V): 3.135; No. of Outputs: 6; Output Frequency Max. (MHz): 200; Output Frequency Min. (MHz): 3; DatasheetVersion: Rev. *I; PackageVersion: Rev. *D, 09/2011; PackageReference: ZX16; PackageDescription: 16-Pin Thin Shrink Small Outline Package, Body 5 x 4.4 mm, Pitch 0.65 mm; Supplier 1: Digi-Key; Supplier Part Number 1: CY25200KFZXC-ND; Supplier 2: Mouser; Supplier Part Number 2: 727-CY25200KFZXC; Max. Operating Temp. (degreesC): 70; Min. Operating Temp. (degreesC): 0; Packing: Tube; RoHS: Pb-Free; Mounting Technology: Surface Mount; Code_JEDEC: MO-153; ComponentLink1Description: Manufacturer URL; ComponentLink1URL: http://www.cypress.com/; ComponentLink2Description: Datasheet; ComponentLink2URL: http://www.cypress.com/?docID=47280; ComponentLink3Description: Package Specification; ComponentLink3URL: http://www.cypress.com/?docID=39143
footprint CYP-ZX16_N (SOP, 16-Leads, Body 5.1x4.5mm, Pitch 0.65mm, IPC Medium Density)
footprint CYP-ZX16_L (SOP, 16-Leads, Body 5.1x4.5mm, Pitch 0.65mm, IPC High Density)
footprint CYP-ZX16_M (SOP, 16-Leads, Body 5.1x4.5mm, Pitch 0.65mm, IPC Low Density)
pins: 1 XIN (in) "Crystal input or reference clock input", 2 VDD (power) "3.3 V power supply for digital logic and SSCLK5 and 6 clock outputs", 3 AVDD (power) "3.3 V analog-PLL power supply", 4 CP0 (in) "Control pin 0", 5 AVSS (power) "Analog ground", 6 VSSL (power) "VDDL power supply ground", 7 SSCLK1 (hiz) "Programmable spread spectrum clock output at VDDL level (2.5 V or 3.3 V)", 8 SSCLK2 (hiz) "Programmable spread spectrum clock output at VDDL level (2.5 V or 3.3 V)", 9 SSCLK3 (hiz) "Programmable spread spectrum clock output at VDDL level (2.5 V or 3.3 V)", 10 CP1 (in) "Control pin 1", 11 VDDL (power) "2.5 V or 3.3 V power supply for SSCLK1/2/3/4 clock outputs", 12 SSCLK4 (hiz) "Programmable spread spectrum clock output at VDDL level (2.5 V or 3.3 V)", 13 VSS (power) "Ground", 14 SSCLK5/REFOUT/CP2 (io) "Programmable spread spectrum clock or buffered reference output at VDD level (3.3 V) or control pin, CP2", 15 SSCLK6/REFOUT/CP3 (io) "Programmable spread spectrum clock or buffered reference output at VDD level (3.3 V) or control pin, CP3", 16 XOUT "Reference output"

## CY25200KFZXCT
designator U?
Programmable Spread Spectrum Clock Generator for EMI Reduction, 2.5 / 3.3 V, 6 Outputs, 3 to 200 MHz, 0 to 70 degC, 16-Pin TSSOP (ZX16), Tape and Reel; Manufacturer: Cypress; PartNumber: CY25200KFZXCT; Input Frequency Max. (MHz): 166; Input Frequency Min. (MHz): 8; Max. Operating Voltage (V): 3.465; Min. Operating Voltage (V): 3.135; No. of Outputs: 6; Output Frequency Max. (MHz): 200; Output Frequency Min. (MHz): 3; DatasheetVersion: Rev. *I; PackageVersion: Rev. *D, 09/2011; PackageReference: ZX16; PackageDescription: 16-Pin Thin Shrink Small Outline Package, Body 5 x 4.4 mm, Pitch 0.65 mm; Supplier 1: Mouser; Supplier Part Number 1: 727-CY25200KFZXCT; Max. Operating Temp. (degreesC): 70; Min. Operating Temp. (degreesC): 0; Packing: Tape and Reel; RoHS: Pb-Free; Mounting Technology: Surface Mount; Code_JEDEC: MO-153; ComponentLink1Description: Manufacturer URL; ComponentLink1URL: http://www.cypress.com/; ComponentLink2Description: Datasheet; ComponentLink2URL: http://www.cypress.com/?docID=47280; ComponentLink3Description: Package Specification; ComponentLink3URL: http://www.cypress.com/?docID=39143
footprint CYP-ZX16_N (SOP, 16-Leads, Body 5.1x4.5mm, Pitch 0.65mm, IPC Medium Density)
footprint CYP-ZX16_L (SOP, 16-Leads, Body 5.1x4.5mm, Pitch 0.65mm, IPC High Density)
footprint CYP-ZX16_M (SOP, 16-Leads, Body 5.1x4.5mm, Pitch 0.65mm, IPC Low Density)
pins: 1 XIN (in) "Crystal input or reference clock input", 2 VDD (power) "3.3 V power supply for digital logic and SSCLK5 and 6 clock outputs", 3 AVDD (power) "3.3 V analog-PLL power supply", 4 CP0 (in) "Control pin 0", 5 AVSS (power) "Analog ground", 6 VSSL (power) "VDDL power supply ground", 7 SSCLK1 (hiz) "Programmable spread spectrum clock output at VDDL level (2.5 V or 3.3 V)", 8 SSCLK2 (hiz) "Programmable spread spectrum clock output at VDDL level (2.5 V or 3.3 V)", 9 SSCLK3 (hiz) "Programmable spread spectrum clock output at VDDL level (2.5 V or 3.3 V)", 10 CP1 (in) "Control pin 1", 11 VDDL (power) "2.5 V or 3.3 V power supply for SSCLK1/2/3/4 clock outputs", 12 SSCLK4 (hiz) "Programmable spread spectrum clock output at VDDL level (2.5 V or 3.3 V)", 13 VSS (power) "Ground", 14 SSCLK5/REFOUT/CP2 (io) "Programmable spread spectrum clock or buffered reference output at VDD level (3.3 V) or control pin, CP2", 15 SSCLK6/REFOUT/CP3 (io) "Programmable spread spectrum clock or buffered reference output at VDD level (3.3 V) or control pin, CP3", 16 XOUT "Reference output"

## CY25200KFZXI
designator U?
Programmable Spread Spectrum Clock Generator for EMI Reduction, 2.5 / 3.3 V, 6 Outputs, 3 to 200 MHz, -40 to 85 degC, 16-Pin TSSOP (ZX16), Tube; Manufacturer: Cypress; PartNumber: CY25200KFZXI; Input Frequency Max. (MHz): 166; Input Frequency Min. (MHz): 8; Max. Operating Voltage (V): 3.465; Min. Operating Voltage (V): 3.135; No. of Outputs: 6; Output Frequency Max. (MHz): 200; Output Frequency Min. (MHz): 3; DatasheetVersion: Rev. *I; PackageVersion: Rev. *D, 09/2011; PackageReference: ZX16; PackageDescription: 16-Pin Thin Shrink Small Outline Package, Body 5 x 4.4 mm, Pitch 0.65 mm; Supplier 1: Digi-Key; Supplier Part Number 1: CY25200KFZXI-ND; Supplier 2: Mouser; Supplier Part Number 2: 727-CY25200KFZXI; Max. Operating Temp. (degreesC): 85; Min. Operating Temp. (degreesC): -40; Packing: Tube; RoHS: Pb-Free; Mounting Technology: Surface Mount; Code_JEDEC: MO-153; ComponentLink1Description: Manufacturer URL; ComponentLink1URL: http://www.cypress.com/; ComponentLink2Description: Datasheet; ComponentLink2URL: http://www.cypress.com/?docID=47280; ComponentLink3Description: Package Specification; ComponentLink3URL: http://www.cypress.com/?docID=39143
footprint CYP-ZX16_N (SOP, 16-Leads, Body 5.1x4.5mm, Pitch 0.65mm, IPC Medium Density)
footprint CYP-ZX16_L (SOP, 16-Leads, Body 5.1x4.5mm, Pitch 0.65mm, IPC High Density)
footprint CYP-ZX16_M (SOP, 16-Leads, Body 5.1x4.5mm, Pitch 0.65mm, IPC Low Density)
pins: 1 XIN (in) "Crystal input or reference clock input", 2 VDD (power) "3.3 V power supply for digital logic and SSCLK5 and 6 clock outputs", 3 AVDD (power) "3.3 V analog-PLL power supply", 4 CP0 (in) "Control pin 0", 5 AVSS (power) "Analog ground", 6 VSSL (power) "VDDL power supply ground", 7 SSCLK1 (hiz) "Programmable spread spectrum clock output at VDDL level (2.5 V or 3.3 V)", 8 SSCLK2 (hiz) "Programmable spread spectrum clock output at VDDL level (2.5 V or 3.3 V)", 9 SSCLK3 (hiz) "Programmable spread spectrum clock output at VDDL level (2.5 V or 3.3 V)", 10 CP1 (in) "Control pin 1", 11 VDDL (power) "2.5 V or 3.3 V power supply for SSCLK1/2/3/4 clock outputs", 12 SSCLK4 (hiz) "Programmable spread spectrum clock output at VDDL level (2.5 V or 3.3 V)", 13 VSS (power) "Ground", 14 SSCLK5/REFOUT/CP2 (io) "Programmable spread spectrum clock or buffered reference output at VDD level (3.3 V) or control pin, CP2", 15 SSCLK6/REFOUT/CP3 (io) "Programmable spread spectrum clock or buffered reference output at VDD level (3.3 V) or control pin, CP3", 16 XOUT "Reference output"

## CY25200KFZXIT
designator U?
Programmable Spread Spectrum Clock Generator for EMI Reduction, 2.5 / 3.3 V, 6 Outputs, 3 to 200 MHz, -40 to 85 degC, 16-Pin TSSOP (ZX16), Tape and Reel; Manufacturer: Cypress; PartNumber: CY25200KFZXIT; Input Frequency Max. (MHz): 166; Input Frequency Min. (MHz): 8; Max. Operating Voltage (V): 3.465; Min. Operating Voltage (V): 3.135; No. of Outputs: 6; Output Frequency Max. (MHz): 200; Output Frequency Min. (MHz): 3; DatasheetVersion: Rev. *I; PackageVersion: Rev. *D, 09/2011; PackageReference: ZX16; PackageDescription: 16-Pin Thin Shrink Small Outline Package, Body 5 x 4.4 mm, Pitch 0.65 mm; Supplier 1: Digi-Key; Supplier Part Number 1: CY25200KFZXIT-ND; Supplier 2: Mouser; Supplier Part Number 2: 727-CY25200KFZXIT; Max. Operating Temp. (degreesC): 85; Min. Operating Temp. (degreesC): -40; Packing: Tape and Reel; RoHS: Pb-Free; Mounting Technology: Surface Mount; Code_JEDEC: MO-153; ComponentLink1Description: Manufacturer URL; ComponentLink1URL: http://www.cypress.com/; ComponentLink2Description: Datasheet; ComponentLink2URL: http://www.cypress.com/?docID=47280; ComponentLink3Description: Package Specification; ComponentLink3URL: http://www.cypress.com/?docID=39143
footprint CYP-ZX16_N (SOP, 16-Leads, Body 5.1x4.5mm, Pitch 0.65mm, IPC Medium Density)
footprint CYP-ZX16_L (SOP, 16-Leads, Body 5.1x4.5mm, Pitch 0.65mm, IPC High Density)
footprint CYP-ZX16_M (SOP, 16-Leads, Body 5.1x4.5mm, Pitch 0.65mm, IPC Low Density)
pins: 1 XIN (in) "Crystal input or reference clock input", 2 VDD (power) "3.3 V power supply for digital logic and SSCLK5 and 6 clock outputs", 3 AVDD (power) "3.3 V analog-PLL power supply", 4 CP0 (in) "Control pin 0", 5 AVSS (power) "Analog ground", 6 VSSL (power) "VDDL power supply ground", 7 SSCLK1 (hiz) "Programmable spread spectrum clock output at VDDL level (2.5 V or 3.3 V)", 8 SSCLK2 (hiz) "Programmable spread spectrum clock output at VDDL level (2.5 V or 3.3 V)", 9 SSCLK3 (hiz) "Programmable spread spectrum clock output at VDDL level (2.5 V or 3.3 V)", 10 CP1 (in) "Control pin 1", 11 VDDL (power) "2.5 V or 3.3 V power supply for SSCLK1/2/3/4 clock outputs", 12 SSCLK4 (hiz) "Programmable spread spectrum clock output at VDDL level (2.5 V or 3.3 V)", 13 VSS (power) "Ground", 14 SSCLK5/REFOUT/CP2 (io) "Programmable spread spectrum clock or buffered reference output at VDD level (3.3 V) or control pin, CP2", 15 SSCLK6/REFOUT/CP3 (io) "Programmable spread spectrum clock or buffered reference output at VDD level (3.3 V) or control pin, CP3", 16 XOUT "Reference output"

## CY25402SXC
designator U?
Two PLL Programmable Clock Generator with Spread Spectrum, 1.8 V, 3 Outputs, 3 to 166 MHz, 0 to 70 degC, 8-Pin SOIC (SX8), Tube; Manufacturer: Cypress; PartNumber: CY25402SXC; Input Frequency Max. (MHz): 166; Input Frequency Min. (MHz): 8; Max. Operating Voltage (V): 3.6; Min. Operating Voltage (V): 2.25; No. of Outputs: 3; DatasheetVersion: Rev. *G; PackageVersion: Rev. *E, 06/2011; PackageReference: SX8; PackageDescription: 8-pin Lead SOIC-S08, Body 4.89 x 3.90 mm,Pitch 1.27 mm; Max. Operating Temp. (degreesC): 70; Min. Operating Temp. (degreesC): 0; Output Frequency Max. (MHz): 166; Output Frequency Min. (MHz): 3; Packing: Tube; RoHS: Pb-Free; Mounting Technology: Surface Mount; Code_JEDEC: MS-012; ComponentLink1Description: Manufacturer URL; ComponentLink1URL: http://www.cypress.com/; ComponentLink2Description: Datasheet; ComponentLink2URL: http://www.cypress.com/?docID=47412; ComponentLink3Description: Package Specification; ComponentLink3URL: http://www.cypress.com/?docID=39153
footprint CYP-SX8_N (SOIC, 8-Leads, Body 4.89x3.90mm, Pitch 1.27mm, IPC Medium Density)
footprint CYP-SX8_L (SOIC, 8-Leads, Body 4.89x3.90mm, Pitch 1.27mm, IPC High Density)
footprint CYP-SX8_M (SOIC, 8-Leads, Body 4.89x3.90mm, Pitch 1.27mm, IPC Low Density)
pins: 1 XIN/EXCLKIN (in) "?Crystal input or 1.8 V External clock input", 2 VDD (power) "Power supply: 2.5 V, 3.0 V, or 3.3 V", 3 CLK1 (out) "Programmable clock output with spread spectrum", 4 REFOUT/FS0 (io) "Multifunction programmable pin: Reference clock output or frequency select pin", 5 PD#/OE/FS1 (in) "Multifunction programmable pin: Power-down, output enable or Frequency select pin", 6 CLK2/SSON (io) "Multifunction programmable pin: Programmable clock output with spread spectrum or Spread spectrum ON/OFF control pin", 7 GND (power) "Power supply ground", 8 XOUT "Crystal output"

## CY25402SXCT
designator U?
Two PLL Programmable Clock Generator with Spread Spectrum, 1.8 V, 3 Outputs, 3 to 166 MHz, 0 to 70 degC, 8-Pin SOIC (SX8), Tape and Reel; Manufacturer: Cypress; PartNumber: CY25402SXCT; Input Frequency Max. (MHz): 166; Input Frequency Min. (MHz): 8; Max. Operating Voltage (V): 3.6; Min. Operating Voltage (V): 2.25; No. of Outputs: 3; DatasheetVersion: Rev. *G; PackageVersion: Rev. *E, 06/2011; PackageReference: SX8; PackageDescription: 8-pin Lead SOIC-S08, Body 4.89 x 3.90 mm,Pitch 1.27 mm; Max. Operating Temp. (degreesC): 70; Min. Operating Temp. (degreesC): 0; Output Frequency Max. (MHz): 166; Output Frequency Min. (MHz): 3; Packing: Tape and Reel; RoHS: Pb-Free; Mounting Technology: Surface Mount; Code_JEDEC: MS-012; ComponentLink1Description: Manufacturer URL; ComponentLink1URL: http://www.cypress.com/; ComponentLink2Description: Datasheet; ComponentLink2URL: http://www.cypress.com/?docID=47412; ComponentLink3Description: Package Specification; ComponentLink3URL: http://www.cypress.com/?docID=39153
footprint CYP-SX8_N (SOIC, 8-Leads, Body 4.89x3.90mm, Pitch 1.27mm, IPC Medium Density)
footprint CYP-SX8_L (SOIC, 8-Leads, Body 4.89x3.90mm, Pitch 1.27mm, IPC High Density)
footprint CYP-SX8_M (SOIC, 8-Leads, Body 4.89x3.90mm, Pitch 1.27mm, IPC Low Density)
pins: 1 XIN/EXCLKIN (in) "?Crystal input or 1.8 V External clock input", 2 VDD (power) "Power supply: 2.5 V, 3.0 V, or 3.3 V", 3 CLK1 (out) "Programmable clock output with spread spectrum", 4 REFOUT/FS0 (io) "Multifunction programmable pin: Reference clock output or frequency select pin", 5 PD#/OE/FS1 (in) "Multifunction programmable pin: Power-down, output enable or Frequency select pin", 6 CLK2/SSON (io) "Multifunction programmable pin: Programmable clock output with spread spectrum or Spread spectrum ON/OFF control pin", 7 GND (power) "Power supply ground", 8 XOUT "Crystal output"